# EAGLE library part TLC071 (library audioint)
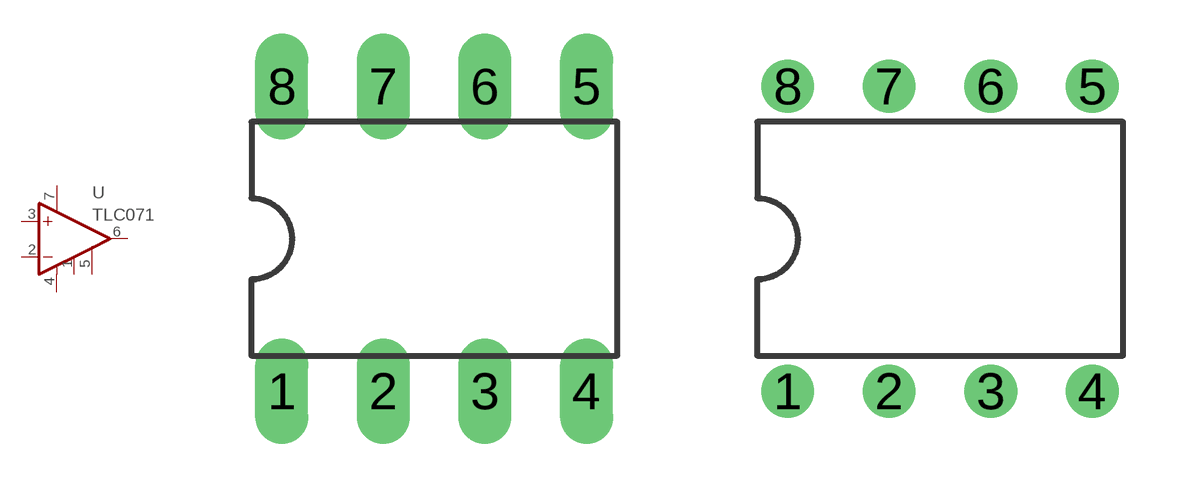
[diagram p13: symbol with the pads of 8-DIP; footprints 8-DIP, 8-DIP/ROUND]

Designator prefix U

## TLC0718-DIP  [8-DIP]
1  OFF+
2  -IN  in
3  +IN  in
4  V-  pwr
5  OFF-
6  OUT  out
7  V+  pwr

## TLC0718-DIP/ROUND  [8-DIP/ROUND]
Pads as for 8-DIP

## Footprint 8-DIP (pad centres in mm)
drill 0.813 long: 1 -3.81,-3.81; 2 -1.27,-3.81; 3 1.27,-3.81; 4 3.81,-3.81; 5 3.81,3.81; 6 1.27,3.81; 7 -1.27,3.81; 8 -3.81,3.81

## Footprint 8-DIP/ROUND (pad centres in mm)
drill 0.813 pad 1.321 round: 1 -3.81,-3.81; 2 -1.27,-3.81; 3 1.27,-3.81; 4 3.81,-3.81; 5 3.81,3.81; 6 1.27,3.81; 7 -1.27,3.81; 8 -3.81,3.81